# EAGLE library part RJ45-S (library TASLink)
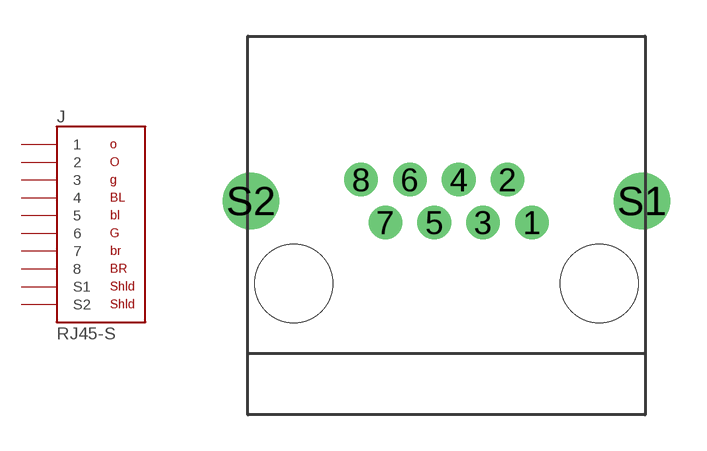
[diagram p2: symbol with the pads of RJ45-S; footprint RJ45-S]

Designator prefix J

## RJ45-S  [RJ45-S]
1  1
2  2
3  3
4  4
5  5
6  6
7  7
8  8
S1  S1
S2  S2

## Footprint RJ45-S (pad centres in mm)
drill 0.889: 1 3.556,2.54; 2 2.54,4.318; 3 1.524,2.54; 4 0.508,4.318; 5 -0.508,2.54; 6 -1.524,4.318; 7 -2.54,2.54; 8 -3.556,4.318
drill 1.575: S1 8.128,3.429; S2 -8.128,3.429
hole 3.251 at -6.35,0
hole 3.251 at 6.35,0